# Altium schematic symbol library 691137710002.SchLib: 1 symbol
Pins are listed as number, name and electrical type; pins without a type are passive.

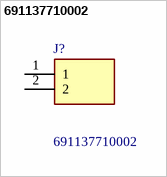
[diagram p0: symbol 691137710002]

## 691137710002
designator J?
Wurth Elektronik WR-TBL Series 5mm Pitch, 2 Way, PCB Terminal Block, Through Hole; Geometry.Height: 11.6mm; Mouser Part Number: 710-691137710002; Mouser Price/Stock: https://www.mouser.co.uk/ProductDetail/Wurth-Elektronik/691137710002?qs=lBTPRtX1sU9LnHBbviNKGA%3D%3D; Manufacturer_Name: Wurth Elektronik; Manufacturer_Part_Number: 691137710002; Datasheet Link: https://katalog.we-online.com/em/datasheet/691137710002.pdf
footprint SHDR2W70P0X500_1X2_1000X750X1160P
pins: 1, 2